# EAGLE library part PCAL95*5A (library bschulz)
PCAL95*5A - I2C I/O Expander, 16 bit wtih interrupt and agile IO Characteristics: Vcc: 1.65V ~ 5.5V IOut: 25 mA IQ: 1μA Operating Temperature: -40°C to 85°C Internal Configurable Pullups/Pulldown* Digikey: 568-9947-1-ND (PCAL9535A, QFN) <https://www.digikey.com/en/products/detail/nxp-usa-inc/PCAL9535AHF-128/3721166> 568-9952-1-ND (PCAL9555A, QFN) <https://www.digikey.com/en/products/detail/nxp-usa-inc/PCAL9555AHF-128/3598045> *PCAL9555A has pullups enabled by default, but remain configurable
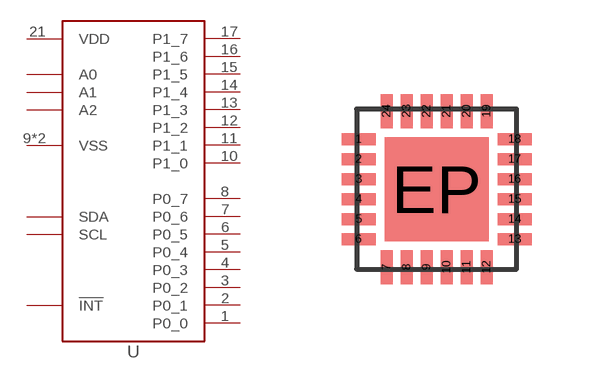
[diagram p175: symbol with the pads of QFN24; footprint QFN24]

Designator prefix U

## PCAL955AQFN (DISP: PCAL95*5A; MF: NXP), PCAL9535AQFN (DIGIKEY: 568-9947-1-ND; DISP: PCAL9535A; MF: NXP; MPN: PCAL9535AHF,128), PCAL9555AQFN (DIGIKEY: 568-9952-1-ND; DISP: PCAL9555A; MF: NXP; MPN: PCAL9555AHF,128)  [QFN24]
1  P0_0
2  P0_1
3  P0_2
4  P0_3
5  P0_4
6  P0_5
7  P0_6
8  P0_7
9  VSS  pwr
10  P1_0
11  P1_1
12  P1_2
13  P1_3
14  P1_4
15  P1_5
16  P1_6
17  P1_7
18  A0  in
19  SCL  in
20  SDA
21  VDD  pwr
22  !INT  out
23  A1  in
24  A2  in
EP  VSS  pwr

## Footprint QFN24 (pad centres in mm)
24 pin QFN package, 4x4 mm size, 0.5mm pitch Reference <http://ww1.microchip.com/downloads/en/devicedoc/22103a.pdf> Note: 0.5mm vs 0.65mm pitch discrepancy between land pattern and package drawing!
smd 0.85 x 0.3: 1 -1.95,1.25; 2 -1.95,0.75; 3 -1.95,0.25; 4 -1.95,-0.25; 5 -1.95,-0.75; 6 -1.95,-1.25; 13 1.95,-1.25; 14 1.95,-0.75; 15 1.95,-0.25; 16 1.95,0.25; 17 1.95,0.75; 18 1.95,1.25
smd 0.3 x 0.85: 7 -1.25,-1.95; 8 -0.75,-1.95; 9 -0.25,-1.95; 10 0.25,-1.95; 11 0.75,-1.95; 12 1.25,-1.95; 19 1.25,1.95; 20 0.75,1.95; 21 0.25,1.95; 22 -0.25,1.95; 23 -0.75,1.95; 24 -1.25,1.95
smd 2.6 x 2.6: EP 0,0